# Altium schematic symbol library 243-4xx-Suiveur-IR-7.SCHLIB: 5 symbols
Pins are listed as number, name and electrical type; pins without a type are passive.

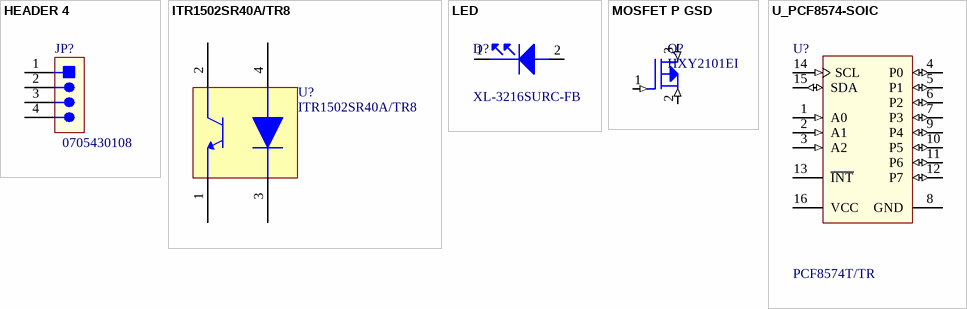
[diagram p0: symbols HEADER 4 to U_PCF8574-SOIC]

## HEADER 4
designator JP?, comment 0705430108
CONN HEADER VERT 4POS 2.54MM; Manufacturer 1: CJT; Manufacturer Part Number 1: A2547WV-4P; Code CEGEP: CONDIV089; Localisation: AV-Q06--R14-J057; Supplier 1: LCSC; Supplier Part Number 1: C5224497; Manufacturer 2: Molex; Manufacturer Part Number 2: 0705430108; Supplier 2: Digikey; Supplier Part Number 2: WM4124-ND; Mounting Technology: TH
footprint MOLEX4
pins: 1, 2, 3, 4

## ITR1502SR40A/TR8
designator U?
PHOTOINTERRUPTER REFLECTIVE 3MM SMD; Manufacturer 1: Everlight; Manufacturer Part Number 1: ITR1502SR40A/TR8; Supplier 1: LCSC; Supplier Part Number 1: C183793; Manufacturer 2: Sharp; Manufacturer Part Number 2: GP2S700HCP; Supplier 2: Digikey; Supplier Part Number 2: 1855-1020-1-ND; Mounting Technology: SMT
footprint GP2S700HCP
pins: 1 E, 2 C, 3 K, 4 A

## LED
designator D?, comment XL-3216SURC-FB
DEL Rouge 1206; Manufacturer 1: XINGLIGHT; Code CEGEP: LEDROUGECLAIR; Localisation: AVP-14; Manufacturer Part Number 1: XL-3216SURC-FB; Supplier 1: LCSC; Supplier Part Number 1: C3646938; Manufacturer 2: Würth Elektronik; Manufacturer Part Number 2: 150120RS75000; Supplier 2: Digikey; Supplier Part Number 2: 732-4991-1-ND; Mounting Technology: SMT
footprint LED 1206
pins: 1 ANODE, 2 CATHODE

## MOSFET P GSD
designator Q?, comment HXY2101EI
MOSFET P-CH 20V 1.8A SOT-323; Manufacturer 1: HXY Mosfet; Manufacturer Part Number 1: HXY2101EI; Supplier 1: LCSC; Supplier Part Number 1: C5148643; Manufacturer 2: MCC; Manufacturer Part Number 2: SI2101A-TP; Supplier 2: Digikey; Supplier Part Number 2: 353-SI2101A-TPCT-ND; Mounting Technology: SMT
footprint SOT-323 (SOT23, 3-Leads, Body 2,00x2,28mm, Pitch 0,65mm, IPC Medium Density)
pins: 1 GATE (in), 2 SOURCE (in), 3 DRAIN (in)

## U_PCF8574-SOIC
designator U?, comment PCF8574T/TR
Remote 8-bit I/O expander for I2C-bus; Manufacturer 1: HG Semi; Code CEGEP: KIC8574SM; Localisation: R13-D030; Manufacturer Part Number 1: PCF8574T/TR; Supplier 1: LCSC; Supplier Part Number 1: C2987288; Manufacturer 2: TI; Manufacturer Part Number 2: PCF8574DWR; Supplier 2: Digikey; Supplier Part Number 2: 296-13108-1-ND; Mounting Technology: SMT
footprint SOIC127P1030X265-16N (SOIC, 16-Leads, Body 10,30x7,50mm, Pitch 1,27mm, IPC Medium Density)
pins: 1 A0 (in), 2 A1 (in), 3 A2 (in), 4 P0 (io), 5 P1 (io), 6 P2 (io), 7 P3 (io), 8 GND (power), 9 P4 (io), 10 P5 (io), 11 P6 (io), 12 P7 (io), 13 ~{INT} (oc), 14 SCL (in), 15 SDA (io), 16 VCC (power)